# Altium schematic symbol library ORLY_Lib.SchLib: 11 symbols
Pins are listed as number, name and electrical type; pins without a type are passive.

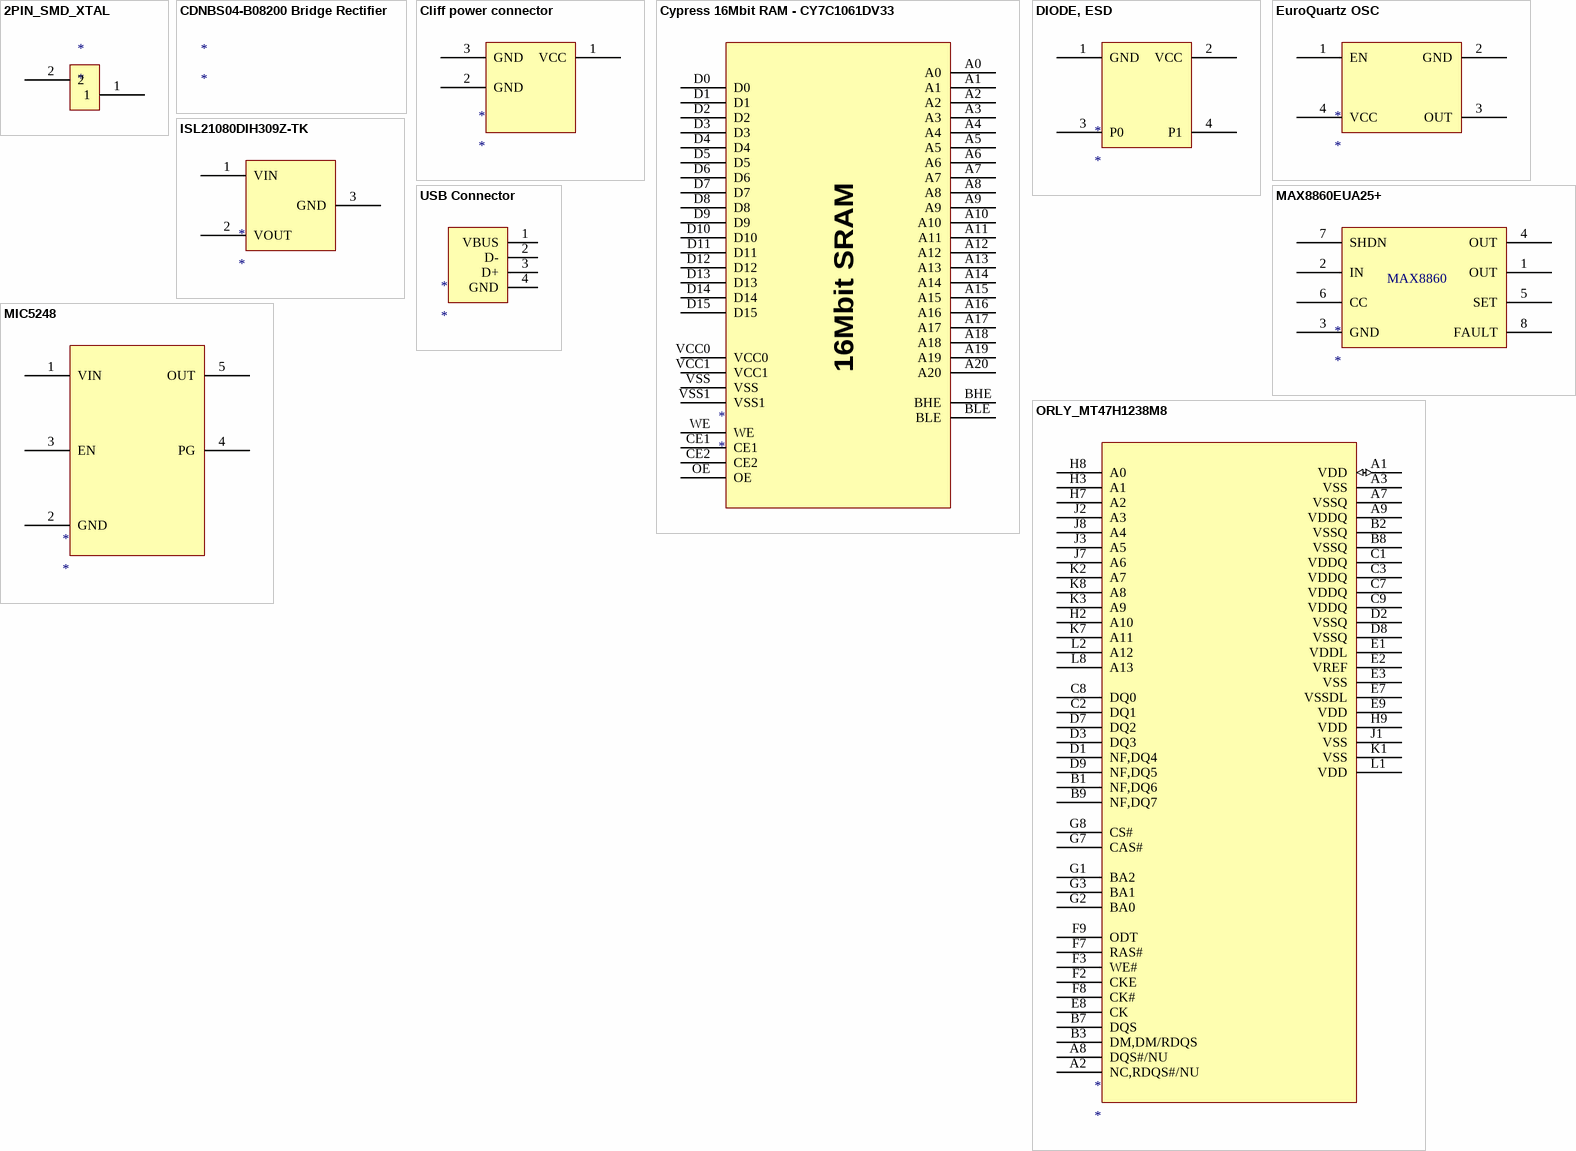
[diagram p0: symbols 2PIN_SMD_XTAL to USB Connector]

## 2PIN_SMD_XTAL
designator *
footprint 48MHZ_XTAL_PAD
pins: 1, 2

## CDNBS04-B08200 Bridge Rectifier
designator *

## Cliff power connector
designator *
footprint cliff power connector
pins: 1 VCC, 2 GND, 3 GND

## Cypress 16Mbit RAM - CY7C1061DV33
designator *
footprint BGA48C75P8X6_950X800X100 (BGA, 48-Leads, Body 9.5x8.0mm,  Pitch 0.75mm); pin to pad A0>A3 A1>A4 A2>A5 A3>B3 A4>B4 A5>C3 A6>C4 A7>D4 A8>H2 A9>H3 A10>H4 A11>H5 A12>G3 A13>G4 A14>F3 A15>F4 A16>E4 A17>D3 A18>H1 A19>H6 A20>G2 BHE>B2 BLE>A1 CE1>B5 CE2>A6 D0>B6 D1>C5 D2>C6 D3>D5 D4>E5 D5>F5 D6>F6 D7>G6 D8>B1 D9>C1 D10>C2 D11>D2 D12>E2 D13>F2 D14>F1 D15>G1 OE>A2 VCC0>E1 VCC1>D6 VSS>D1 VSS1>E6 WE>G5
pins: A0, A1, A2, A3, A4, A5, A6, A7, A8, A9, A10, A11, A12, A13, A14, A15, A16, A17, A18, A19, A20, BHE, BLE, CE1, CE2, D0, D1, D2, D3, D4, D5, D6, D7, D8, D9, D10, D11, D12, D13, D14, D15, OE, VCC0, VCC1, VSS, VSS1, WE
text: 16Mbit SRAM

## DIODE, ESD
designator *
footprint SOT190P248X120-4N (SOT143, 4-Leads, Body 3.0x2.5mm (max), Pitch 1.90mm, IPC Medium Density)
pins: 1 GND, 2 VCC, 3 P0, 4 P1

## EuroQuartz OSC
designator *
footprint SOP4
pins: 1 EN, 2 GND, 3 OUT, 4 VCC

## ISL21080DIH309Z-TK
designator *
pins: 1 VIN, 2 VOUT, 3 GND

## MAX8860EUA25+
designator *
footprint TSOP65P300X110-8N (TSOP, 8-Leads, Body 3.0x3.0mm (max), Pitch 0.65mm, IPC Medium Density)
pins: 1 OUT, 2 IN, 3 GND, 4 OUT, 5 SET, 6 CC, 7 SHDN, 8 FAULT
text: MAX8860

## MIC5248
designator *
footprint SOT95P280X145-5N (SOT23, 5-Leads, Body 3.0x3.0mm (max), Pitch 0.95mm, IPC Medium Density)
pins: 1 VIN, 2 GND, 3 EN, 4 PG, 5 OUT

## ORLY_MT47H1238M8
designator *
footprint ORLY_MT47H128M8CF-3
pins: A1 VDD (io), A2 NC,RDQS#/NU, A3 VSS, A7 VSSQ, A8 DQS#/NU, A9 VDDQ, B1 NF,DQ6, B2 VSSQ, B3 DM,DM/RDQS, B7 DQS, B8 VSSQ, B9 NF,DQ7, C1 VDDQ, C2 DQ1, C3 VDDQ, C7 VDDQ, C8 DQ0, C9 VDDQ, D1 NF,DQ4, D2 VSSQ, D3 DQ3, D7 DQ2, D8 VSSQ, D9 NF,DQ5, E1 VDDL, E2 VREF, E3 VSS, E7 VSSDL, E8 CK, E9 VDD, F2 CKE, F3 WE#, F7 RAS#, F8 CK#, F9 ODT, G1 BA2, G2 BA0, G3 BA1, G7 CAS#, G8 CS#, H2 A10, H3 A1, H7 A2, H8 A0, H9 VDD, J1 VSS, J2 A3, J3 A5, J7 A6, J8 A4, K1 VSS, K2 A7, K3 A9, K7 A11, K8 A8, L1 VDD, L2 A12, L8 A13

## USB Connector
designator *
footprint USB2.5-2H4D (Connector; USB1.1, Type B, Thru-Hole; 4 Position; Right Angle)
pins: 1 VBUS, 2 D-, 3 D+, 4 GND